# Altium footprint library TSSOP-8.PcbLib: 1 footprints
Each footprint in its own frame and in the unit in brackets; x right, y up, seen from the top. Pads: shape width x height; smd on the part's side, far side on the other; paste and mask are expansions set on the pad; w line width, h text height; cw(c..) or ccw(c..) is an arc to the next point about the centre after c.
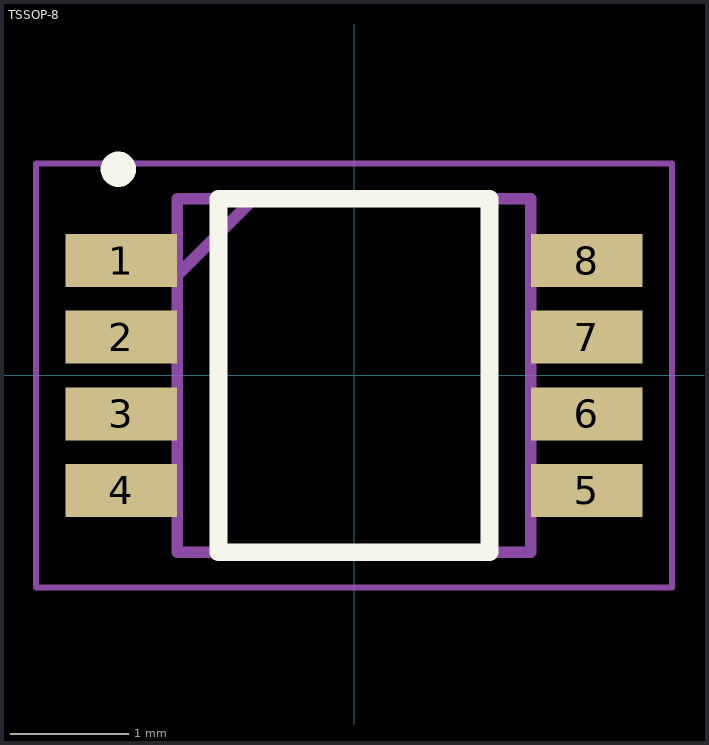
[diagram p0: the footprint, top view; thin cyan lines are the x and y axes]

## TSSOP-8 [mm]
pads (8):
  rect 0.95x0.45 smd: 1(-1.975,0.975) 2(-1.975,0.325) 3(-1.975,-0.325) 4(-1.975,-0.975) 5(1.975,-0.975) 6(1.975,-0.325) 7(1.975,0.325) 8(1.975,0.975)
Top Overlay:
  circle w0.15: c-2,1.75 r0.075
  lines w0.15: -1.15,-1.5 1.15,-1.5 1.15,1.5 -1.15,1.5 -1.15,-1.5
Mechanical 13:
  lines w0.05: -2.7,-1.8 2.7,-1.8 2.7,1.8 -2.7,1.8 -2.7,-1.8
  lines w0.1: -1.5,0.85 -0.85,1.5 ; -1.5,-1.5 1.5,-1.5 1.5,1.5 -1.5,1.5 -1.5,-1.5
3D body "74LVC1G74DP-125--3DModel-STEP-56544.STEP": height 1.1, standoff 0, extent -2,-1.5 2,1.5
3D body: height 0.25, standoff 0, extent -0.948,1.397 -0.889,1.455